# EAGLE library part SWITCH-CK-JS202011SCQN (library SoftDust)
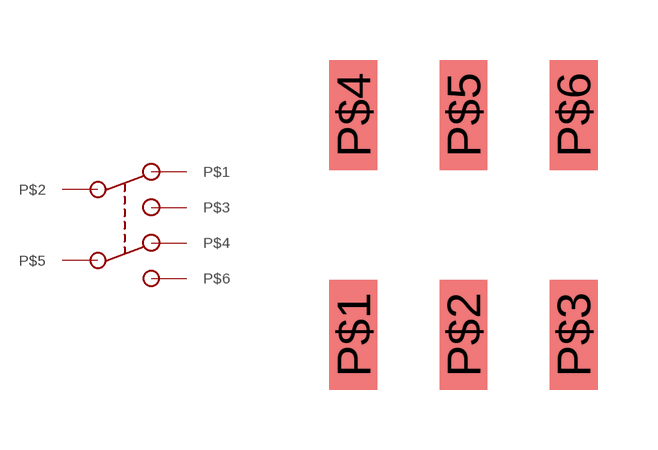
[diagram p6: symbol with the pads of CK-DPDT-SMD; footprint CK-DPDT-SMD]

Designator prefix -

## SWITCH-CK-JS202011SCQN  [CK-DPDT-SMD]
P$1  P$1
P$2  P$2
P$3  P$3
P$4  P$4
P$5  P$5
P$6  P$6

## Footprint CK-DPDT-SMD (pad centres in mm)
smd 1.2 x 2.75: P$1 -2.75,-2.75; P$2 0,-2.75; P$3 2.75,-2.75; P$4 -2.75,2.75; P$5 0,2.75; P$6 2.75,2.75